# Altium integrated library Capacitor - Aluminium TH.IntLib: 4591 symbols (part 50 of 68)
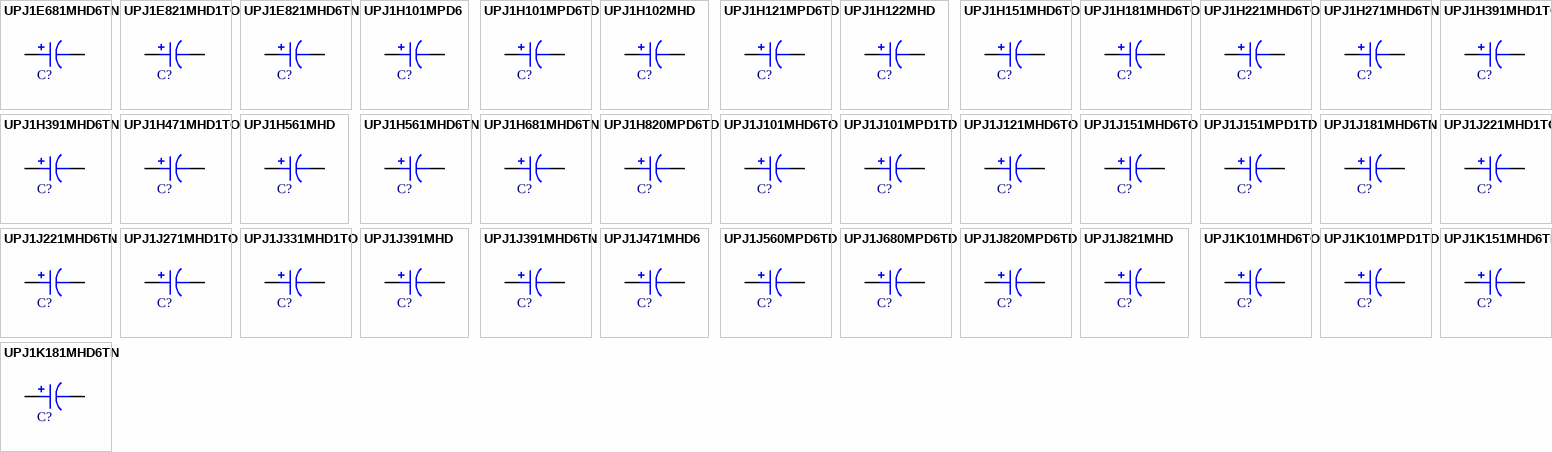
[diagram p163: symbols UPJ1E681MHD6TN to UPJ1K181MHD6TN]

## UPJ1H271MHD6TN
designator C?, comment 270uF  (value not drawn)
CAP ALUM 270UF 20% 50V RADIAL; Part Number: UPJ1H271MHD6TN; Manufacturer: Nichicon; TemperatureRange: -55C ~ 105C; Type: Polar; Ripple Current: 840mA @ 120Hz; Impedance: 91 mOhm; Value: 270uF; PartId: 26235; Supplier 1: Digi-Key; Supplier Part Number 1: 493-5051-3-ND; ComponentLink1Description: Datasheet; ComponentLink1URL: http://nichicon-us.com/english/products/pdfs/e-upj.pdf; ComponentLink2Description: Digi-Key Listing; ComponentLink2URL: https://www.digikey.com/product-detail/en/nichicon/UPJ1H271MHD6TN/493-5051-3-ND/3130056; Tolerance: 20%; Voltage: 50V; Price: 0.4242; Device Package: Radial, Can, 16mm
footprint CAP AL TH D16 L7.5 H16.5
pins: 1, 2

## UPJ1H391MHD1TO
designator C?, comment 390uF  (value not drawn)
CAP ALUM 390UF 20% 50V RADIAL; Part Number: UPJ1H391MHD1TO; Manufacturer: Nichicon; TemperatureRange: -55C ~ 105C; Type: Polar; Ripple Current: 1.12A @ 120Hz; Impedance: 53 mOhm; Value: 390uF; PartId: 23790; Supplier 1: Digi-Key; Supplier Part Number 1: 493-12052-3-ND; ComponentLink1Description: Datasheet; ComponentLink1URL: http://nichicon-us.com/english/products/pdfs/e-upj.pdf; ComponentLink2Description: Digi-Key Listing; ComponentLink2URL: https://www.digikey.com/product-detail/en/nichicon/UPJ1H391MHD1TO/493-12052-3-ND/4321195; Tolerance: 20%; Voltage: 50V; Price: 0.3173; Device Package: Radial, Can, 12.5mm
footprint CAP AL TH D12.5 L5 H27
pins: 1, 2

## UPJ1H391MHD6TN
designator C?, comment 390uF  (value not drawn)
CAP ALUM 390UF 20% 50V RADIAL; Part Number: UPJ1H391MHD6TN; Manufacturer: Nichicon; TemperatureRange: -55C ~ 105C; Type: Polar; Ripple Current: 990mA @ 120Hz; Impedance: 72 mOhm; Value: 390uF; PartId: 26252; Supplier 1: Digi-Key; Supplier Part Number 1: 493-5053-3-ND; ComponentLink1Description: Datasheet; ComponentLink1URL: http://nichicon-us.com/english/products/pdfs/e-upj.pdf; ComponentLink2Description: Digi-Key Listing; ComponentLink2URL: https://www.digikey.com/product-detail/en/nichicon/UPJ1H391MHD6TN/493-5053-3-ND/3130058; Tolerance: 20%; Voltage: 50V; Price: 0.5318; Device Package: Radial, Can, 16mm
footprint CAP AL TH D16 L7.5 H16.5
pins: 1, 2

## UPJ1H471MHD1TO
designator C?, comment 470uF  (value not drawn)
CAP ALUM 470UF 20% 50V RADIAL; Part Number: UPJ1H471MHD1TO; Manufacturer: Nichicon; TemperatureRange: -55C ~ 105C; Type: Polar; Ripple Current: 1.19A @ 120Hz; Impedance: 48 mOhm; Value: 470uF; PartId: 23947; Supplier 1: Digi-Key; Supplier Part Number 1: 493-12103-1-ND; ComponentLink1Description: Datasheet; ComponentLink1URL: http://nichicon-us.com/english/products/pdfs/e-upj.pdf; ComponentLink2Description: Digi-Key Listing; ComponentLink2URL: https://www.digikey.com/product-detail/en/nichicon/UPJ1H471MHD1TO/493-12103-1-ND/4319465; Tolerance: 20%; Voltage: 50V; Price: 0.97; Device Package: Radial, Can, 12.5mm
footprint CAP AL TH D12.5 L5 H27
pins: 1, 2

## UPJ1H561MHD
designator C?, comment 560uF  (value not drawn)
CAP ALUM 560UF 20% 50V RADIAL; Part Number: UPJ1H561MHD; Manufacturer: Nichicon; TemperatureRange: -55C ~ 105C; Type: Polar; Ripple Current: 1.36A @ 120Hz; Impedance: 40 mOhm; Value: 560uF; PartId: 24203; Supplier 1: Digi-Key; Supplier Part Number 1: 493-5544-ND; ComponentLink1Description: Datasheet; ComponentLink1URL: http://nichicon-us.com/english/products/pdfs/e-upj.pdf; ComponentLink2Description: Digi-Key Listing; ComponentLink2URL: https://www.digikey.com/product-detail/en/nichicon/UPJ1H561MHD/493-5544-ND/2599207; Tolerance: 20%; Voltage: 50V; Price: 0.9; Device Package: Radial, Can, 12.5mm
footprint CAP AL TH D12.5 L5 H35.5
pins: 1, 2

## UPJ1H561MHD6TN
designator C?, comment 560uF  (value not drawn)
CAP ALUM 560UF 20% 50V RADIAL; Part Number: UPJ1H561MHD6TN; Manufacturer: Nichicon; TemperatureRange: -55C ~ 105C; Type: Polar; Ripple Current: 1.26A @ 120Hz; Impedance: 53 mOhm; Value: 560uF; PartId: 26359; Supplier 1: Digi-Key; Supplier Part Number 1: 493-5056-3-ND; ComponentLink1Description: Datasheet; ComponentLink1URL: http://nichicon-us.com/english/products/pdfs/e-upj.pdf; ComponentLink2Description: Digi-Key Listing; ComponentLink2URL: https://www.digikey.com/product-detail/en/nichicon/UPJ1H561MHD6TN/493-5056-3-ND/3130061; Tolerance: 20%; Voltage: 50V; Price: 0.522; Device Package: Radial, Can, 16mm
footprint CAP AL TH D16 L7.5 H22
pins: 1, 2

## UPJ1H681MHD6TN
designator C?, comment 680uF  (value not drawn)
CAP ALUM 680UF 20% 50V RADIAL; Part Number: UPJ1H681MHD6TN; Manufacturer: Nichicon; TemperatureRange: -55C ~ 105C; Type: Polar; Ripple Current: 1.35A @ 120Hz; Impedance: 48 mOhm; Value: 680uF; PartId: 26351; Supplier 1: Digi-Key; Supplier Part Number 1: 493-5058-3-ND; ComponentLink1Description: Datasheet; ComponentLink1URL: http://nichicon-us.com/english/products/pdfs/e-upj.pdf; ComponentLink2Description: Digi-Key Listing; ComponentLink2URL: https://www.digikey.com/product-detail/en/nichicon/UPJ1H681MHD6TN/493-5058-3-ND/3130063; Tolerance: 20%; Voltage: 50V; Price: 0.5002; Device Package: Radial, Can, 16mm
footprint CAP AL TH D16 L7.5 H22
pins: 1, 2

## UPJ1H820MPD6TD
designator C?, comment 82uF  (value not drawn)
CAP ALUM 82UF 20% 50V RADIAL; Part Number: UPJ1H820MPD6TD; Manufacturer: Nichicon; TemperatureRange: -55C ~ 105C; Type: Polar; Ripple Current: 330mA @ 120Hz; Impedance: 230 mOhm; Value: 82uF; PartId: 24898; Supplier 1: Digi-Key; Supplier Part Number 1: 493-11695-1-ND; ComponentLink1Description: Datasheet; ComponentLink1URL: http://nichicon-us.com/english/products/pdfs/e-upj.pdf; ComponentLink2Description: Digi-Key Listing; ComponentLink2URL: https://www.digikey.com/product-detail/en/nichicon/UPJ1H820MPD6TD/493-11695-1-ND/4319469; Tolerance: 20%; Voltage: 50V; Price: 0.48; Device Package: Radial, Can, 10mm
footprint CAP AL TH D10 L5 H14.5
pins: 1, 2

## UPJ1J101MHD6TO
designator C?, comment 100uF  (value not drawn)
CAP ALUM 100UF 20% 63V RADIAL; Part Number: UPJ1J101MHD6TO; Manufacturer: Nichicon; TemperatureRange: -55C ~ 105C; Type: Polar; Ripple Current: 460mA @ 120Hz; Impedance: 200 mOhm; Value: 100uF; PartId: 22726; Supplier 1: Digi-Key; Supplier Part Number 1: 493-11932-1-ND; ComponentLink1Description: Datasheet; ComponentLink1URL: http://nichicon-us.com/english/products/pdfs/e-upj.pdf; ComponentLink2Description: Digi-Key Listing; ComponentLink2URL: https://www.digikey.com/product-detail/en/nichicon/UPJ1J101MHD6TO/493-11932-1-ND/4319471; Tolerance: 20%; Voltage: 63V; Price: 0; Device Package: Radial, Can, 12.5mm
footprint CAP AL TH D12.5 L5 H16.5
pins: 1, 2

## UPJ1J101MPD1TD
designator C?, comment 100uF  (value not drawn)
CAP ALUM 100UF 20% 63V RADIAL; Part Number: UPJ1J101MPD1TD; Manufacturer: Nichicon; TemperatureRange: -55C ~ 105C; Type: Polar; Ripple Current: 495mA @ 120Hz; Impedance: 180 mOhm; Value: 100uF; PartId: 25736; Supplier 1: Digi-Key; Supplier Part Number 1: 493-11876-3-ND; ComponentLink1Description: Datasheet; ComponentLink1URL: http://nichicon-us.com/english/products/pdfs/e-upj.pdf; ComponentLink2Description: Digi-Key Listing; ComponentLink2URL: https://www.digikey.com/product-detail/en/nichicon/UPJ1J101MPD1TD/493-11876-3-ND/4321019; Tolerance: 20%; Voltage: 63V; Price: 0.1808; Device Package: Radial, Can, 10mm
footprint CAP AL TH D10 L5 H22
pins: 1, 2

## UPJ1J121MHD6TO
designator C?, comment 120uF  (value not drawn)
CAP ALUM 120UF 20% 63V RADIAL; Part Number: UPJ1J121MHD6TO; Manufacturer: Nichicon; TemperatureRange: -55C ~ 105C; Type: Polar; Ripple Current: 510mA @ 120Hz; Impedance: 180 mOhm; Value: 120uF; PartId: 22735; Supplier 1: Digi-Key; Supplier Part Number 1: 493-5063-1-ND; ComponentLink1Description: Datasheet; ComponentLink1URL: http://nichicon-us.com/english/products/pdfs/e-upj.pdf; ComponentLink2Description: Digi-Key Listing; ComponentLink2URL: https://www.digikey.com/product-detail/en/nichicon/UPJ1J121MHD6TO/493-5063-1-ND/3129400; Tolerance: 20%; Voltage: 63V; Price: 0; Device Package: Radial, Can, 12.5mm
footprint CAP AL TH D12.5 L5 H16.5
pins: 1, 2

## UPJ1J151MHD6TO
designator C?, comment 150uF  (value not drawn)
CAP ALUM 150UF 20% 63V RADIAL; Part Number: UPJ1J151MHD6TO; Manufacturer: Nichicon; TemperatureRange: -55C ~ 105C; Type: Polar; Ripple Current: 590mA @ 120Hz; Impedance: 140 mOhm; Value: 150uF; PartId: 22756; Supplier 1: Digi-Key; Supplier Part Number 1: 493-5065-1-ND; ComponentLink1Description: Datasheet; ComponentLink1URL: http://nichicon-us.com/english/products/pdfs/e-upj.pdf; ComponentLink2Description: Digi-Key Listing; ComponentLink2URL: https://www.digikey.com/product-detail/en/nichicon/UPJ1J151MHD6TO/493-5065-1-ND/3129402; Tolerance: 20%; Voltage: 63V; Price: 0; Device Package: Radial, Can, 12.5mm
footprint CAP AL TH D12.5 L5 H16.5
pins: 1, 2

## UPJ1J151MPD1TD
designator C?, comment 150uF  (value not drawn)
CAP ALUM 150UF 20% 63V RADIAL; Part Number: UPJ1J151MPD1TD; Manufacturer: Nichicon; TemperatureRange: -55C ~ 105C; Type: Polar; Ripple Current: 665mA @ 120Hz; Impedance: 130 mOhm; Value: 150uF; PartId: 26001; Supplier 1: Digi-Key; Supplier Part Number 1: 493-5066-3-ND; ComponentLink1Description: Datasheet; ComponentLink1URL: http://nichicon-us.com/english/products/pdfs/e-upj.pdf; ComponentLink2Description: Digi-Key Listing; ComponentLink2URL: https://www.digikey.com/product-detail/en/nichicon/UPJ1J151MPD1TD/493-5066-3-ND/3130071; Tolerance: 20%; Voltage: 63V; Price: 0.215; Device Package: Radial, Can, 10mm
footprint CAP AL TH D10 L5 H30
pins: 1, 2

## UPJ1J181MHD6TN
designator C?, comment 180uF  (value not drawn)
CAP ALUM 180UF 20% 63V RADIAL; Part Number: UPJ1J181MHD6TN; Manufacturer: Nichicon; TemperatureRange: -55C ~ 105C; Type: Polar; Ripple Current: 750mA @ 120Hz; Impedance: 120 mOhm; Value: 180uF; PartId: 26233; Supplier 1: Digi-Key; Supplier Part Number 1: 493-5068-3-ND; ComponentLink1Description: Datasheet; ComponentLink1URL: http://nichicon-us.com/english/products/pdfs/e-upj.pdf; ComponentLink2Description: Digi-Key Listing; ComponentLink2URL: https://www.digikey.com/product-detail/en/nichicon/UPJ1J181MHD6TN/493-5068-3-ND/3130073; Tolerance: 20%; Voltage: 63V; Price: 0.403; Device Package: Radial, Can, 16mm
footprint CAP AL TH D16 L7.5 H16.5
pins: 1, 2

## UPJ1J221MHD1TO
designator C?, comment 220uF  (value not drawn)
CAP ALUM 220UF 20% 63V RADIAL; Part Number: UPJ1J221MHD1TO; Manufacturer: Nichicon; TemperatureRange: -55C ~ 105C; Type: Polar; Ripple Current: 835mA @ 120Hz; Impedance: 94 mOhm; Value: 220uF; PartId: 23238; Supplier 1: Digi-Key; Supplier Part Number 1: 493-11976-1-ND; ComponentLink1Description: Datasheet; ComponentLink1URL: http://nichicon-us.com/english/products/pdfs/e-upj.pdf; ComponentLink2Description: Digi-Key Listing; ComponentLink2URL: https://www.digikey.com/product-detail/en/nichicon/UPJ1J221MHD1TO/493-11976-1-ND/4319475; Tolerance: 20%; Voltage: 63V; Price: 0.68; Device Package: Radial, Can, 12.5mm
footprint CAP AL TH D12.5 L5 H22
pins: 1, 2

## UPJ1J221MHD6TN
designator C?, comment 220uF  (value not drawn)
CAP ALUM 220UF 20% 63V RADIAL; Part Number: UPJ1J221MHD6TN; Manufacturer: Nichicon; TemperatureRange: -55C ~ 105C; Type: Polar; Ripple Current: 820mA @ 120Hz; Impedance: 100 mOhm; Value: 220uF; PartId: 26242; Supplier 1: Digi-Key; Supplier Part Number 1: 493-5070-3-ND; ComponentLink1Description: Datasheet; ComponentLink1URL: http://nichicon-us.com/english/products/pdfs/e-upj.pdf; ComponentLink2Description: Digi-Key Listing; ComponentLink2URL: https://www.digikey.com/product-detail/en/nichicon/UPJ1J221MHD6TN/493-5070-3-ND/3130075; Tolerance: 20%; Voltage: 63V; Price: 0.4905; Device Package: Radial, Can, 16mm
footprint CAP AL TH D16 L7.5 H16.5
pins: 1, 2

## UPJ1J271MHD1TO
designator C?, comment 270uF  (value not drawn)
CAP ALUM 270UF 20% 63V RADIAL; Part Number: UPJ1J271MHD1TO; Manufacturer: Nichicon; TemperatureRange: -55C ~ 105C; Type: Polar; Ripple Current: 1A @ 120Hz; Impedance: 81 mOhm; Value: 270uF; PartId: 23651; Supplier 1: Digi-Key; Supplier Part Number 1: 493-5071-1-ND; ComponentLink1Description: Datasheet; ComponentLink1URL: http://nichicon-us.com/english/products/pdfs/e-upj.pdf; ComponentLink2Description: Digi-Key Listing; ComponentLink2URL: https://www.digikey.com/product-detail/en/nichicon/UPJ1J271MHD1TO/493-5071-1-ND/3129408; Tolerance: 20%; Voltage: 63V; Price: 0.81; Device Package: Radial, Can, 12.5mm
footprint CAP AL TH D12.5 L5 H26.5
pins: 1, 2

## UPJ1J331MHD1TO
designator C?, comment 330uF  (value not drawn)
CAP ALUM 330UF 20% 63V RADIAL; Part Number: UPJ1J331MHD1TO; Manufacturer: Nichicon; TemperatureRange: -55C ~ 105C; Type: Polar; Ripple Current: 1.09A @ 120Hz; Impedance: 72 mOhm; Value: 330uF; PartId: 23625; Supplier 1: Digi-Key; Supplier Part Number 1: 493-5074-3-ND; ComponentLink1Description: Datasheet; ComponentLink1URL: http://nichicon-us.com/english/products/pdfs/e-upj.pdf; ComponentLink2Description: Digi-Key Listing; ComponentLink2URL: https://www.digikey.com/product-detail/en/nichicon/UPJ1J331MHD1TO/493-5074-3-ND/3130079; Tolerance: 20%; Voltage: 63V; Price: 0.3441; Device Package: Radial, Can, 12.5mm
footprint CAP AL TH D12.5 L5 H26.5
pins: 1, 2

## UPJ1J391MHD
designator C?, comment 390uF  (value not drawn)
CAP ALUM 390UF 20% 63V RADIAL; Part Number: UPJ1J391MHD; Manufacturer: Nichicon; TemperatureRange: -55C ~ 105C; Type: Polar; Ripple Current: 1.26A @ 120Hz; Impedance: 59 mOhm; Value: 390uF; PartId: 24204; Supplier 1: Digi-Key; Supplier Part Number 1: 493-5548-ND; ComponentLink1Description: Datasheet; ComponentLink1URL: http://nichicon-us.com/english/products/pdfs/e-upj.pdf; ComponentLink2Description: Digi-Key Listing; ComponentLink2URL: https://www.digikey.com/product-detail/en/nichicon/UPJ1J391MHD/493-5548-ND/2599244; Tolerance: 20%; Voltage: 63V; Price: 0.9; Device Package: Radial, Can, 12.5mm
footprint CAP AL TH D12.5 L5 H35.5
pins: 1, 2

## UPJ1J391MHD6TN
designator C?, comment 390uF  (value not drawn)
CAP ALUM 390UF 20% 63V RADIAL; Part Number: UPJ1J391MHD6TN; Manufacturer: Nichicon; TemperatureRange: -55C ~ 105C; Type: Polar; Ripple Current: 1.17A @ 120Hz; Impedance: 70 mOhm; Value: 390uF; PartId: 26355; Supplier 1: Digi-Key; Supplier Part Number 1: 493-5077-3-ND; ComponentLink1Description: Datasheet; ComponentLink1URL: http://nichicon-us.com/english/products/pdfs/e-upj.pdf; ComponentLink2Description: Digi-Key Listing; ComponentLink2URL: https://www.digikey.com/product-detail/en/nichicon/UPJ1J391MHD6TN/493-5077-3-ND/3130082; Tolerance: 20%; Voltage: 63V; Price: 0.5092; Device Package: Radial, Can, 16mm
footprint CAP AL TH D16 L7.5 H22
pins: 1, 2

## UPJ1J471MHD6
designator C?, comment 470uF  (value not drawn)
CAP ALUM 470UF 20% 63V RADIAL; Part Number: UPJ1J471MHD6; Manufacturer: Nichicon; TemperatureRange: -55C ~ 105C; Type: Polar; Ripple Current: 1.35A @ 120Hz; Impedance: 63 mOhm; Value: 470uF; PartId: 26616; Supplier 1: Digi-Key; Supplier Part Number 1: UPJ1J471MHD6-ND; ComponentLink1Description: Datasheet; ComponentLink1URL: http://nichicon-us.com/english/products/pdfs/e-upj.pdf; ComponentLink2Description: Digi-Key Listing; ComponentLink2URL: https://www.digikey.com/product-detail/en/nichicon/UPJ1J471MHD6/UPJ1J471MHD6-ND/2599248; Tolerance: 20%; Voltage: 63V; Price: 1.4; Device Package: Radial, Can, 16mm
footprint CAP AL TH D16 L7.5 H26.5
pins: 1, 2

## UPJ1J560MPD6TD
designator C?, comment 56uF  (value not drawn)
CAP ALUM 56UF 20% 63V RADIAL; Part Number: UPJ1J560MPD6TD; Manufacturer: Nichicon; TemperatureRange: -55C ~ 105C; Type: Polar; Ripple Current: 275mA @ 120Hz; Impedance: 340 mOhm; Value: 56uF; PartId: 24554; Supplier 1: Digi-Key; Supplier Part Number 1: 493-5079-3-ND; ComponentLink1Description: Datasheet; ComponentLink1URL: http://nichicon-us.com/english/products/pdfs/e-upj.pdf; ComponentLink2Description: Digi-Key Listing; ComponentLink2URL: https://www.digikey.com/product-detail/en/nichicon/UPJ1J560MPD6TD/493-5079-3-ND/3130084; Tolerance: 20%; Voltage: 63V; Price: 0.1507; Device Package: Radial, Can, 10mm
footprint CAP AL TH D10 L5 H14.5
pins: 1, 2

## UPJ1J680MPD6TD
designator C?, comment 68uF  (value not drawn)
CAP ALUM 68UF 20% 63V RADIAL; Part Number: UPJ1J680MPD6TD; Manufacturer: Nichicon; TemperatureRange: -55C ~ 105C; Type: Polar; Ripple Current: 310mA @ 120Hz; Impedance: 280 mOhm; Value: 68uF; PartId: 24573; Supplier 1: Digi-Key; Supplier Part Number 1: 493-5082-3-ND; ComponentLink1Description: Datasheet; ComponentLink1URL: http://nichicon-us.com/english/products/pdfs/e-upj.pdf; ComponentLink2Description: Digi-Key Listing; ComponentLink2URL: https://www.digikey.com/product-detail/en/nichicon/UPJ1J680MPD6TD/493-5082-3-ND/3130087; Tolerance: 20%; Voltage: 63V; Price: 0.157; Device Package: Radial, Can, 10mm
footprint CAP AL TH D10 L5 H14.5
pins: 1, 2

## UPJ1J820MPD6TD
designator C?, comment 82uF  (value not drawn)
CAP ALUM 82UF 20% 63V RADIAL; Part Number: UPJ1J820MPD6TD; Manufacturer: Nichicon; TemperatureRange: -55C ~ 105C; Type: Polar; Ripple Current: 375mA @ 120Hz; Impedance: 240 mOhm; Value: 82uF; PartId: 25016; Supplier 1: Digi-Key; Supplier Part Number 1: 493-5083-3-ND; ComponentLink1Description: Datasheet; ComponentLink1URL: http://nichicon-us.com/english/products/pdfs/e-upj.pdf; ComponentLink2Description: Digi-Key Listing; ComponentLink2URL: https://www.digikey.com/product-detail/en/nichicon/UPJ1J820MPD6TD/493-5083-3-ND/3130088; Tolerance: 20%; Voltage: 63V; Price: 0.159; Device Package: Radial, Can, 10mm
footprint CAP AL TH D10 L5 H17.5
pins: 1, 2

## UPJ1J821MHD
designator C?, comment 820uF  (value not drawn)
CAP ALUM 820UF 20% 63V RADIAL; Part Number: UPJ1J821MHD; Manufacturer: Nichicon; TemperatureRange: -55C ~ 105C; Type: Polar; Ripple Current: 1.88A @ 120Hz; Impedance: 40 mOhm; Value: 820uF; PartId: 27320; Supplier 1: Digi-Key; Supplier Part Number 1: 493-5551-ND; ComponentLink1Description: Datasheet; ComponentLink1URL: http://nichicon-us.com/english/products/pdfs/e-upj.pdf; ComponentLink2Description: Digi-Key Listing; ComponentLink2URL: https://www.digikey.com/product-detail/en/nichicon/UPJ1J821MHD/493-5551-ND/2599258; Tolerance: 20%; Voltage: 63V; Price: 1.48; Device Package: Radial, Can, 16mm
footprint CAP AL TH D16 L7.5 H37
pins: 1, 2

## UPJ1K101MHD6TO
designator C?, comment 100uF  (value not drawn)
CAP ALUM 100UF 20% 80V RADIAL; Part Number: UPJ1K101MHD6TO; Manufacturer: Nichicon; TemperatureRange: -55C ~ 105C; Type: Polar; Ripple Current: 308mA @ 120Hz; Impedance: 230 mOhm; Value: 100uF; PartId: 22753; Supplier 1: Digi-Key; Supplier Part Number 1: 493-5084-1-ND; ComponentLink1Description: Datasheet; ComponentLink1URL: http://nichicon-us.com/english/products/pdfs/e-upj.pdf; ComponentLink2Description: Digi-Key Listing; ComponentLink2URL: https://www.digikey.com/product-detail/en/nichicon/UPJ1K101MHD6TO/493-5084-1-ND/3129421; Tolerance: 20%; Voltage: 80V; Price: 0; Device Package: Radial, Can, 12.5mm
footprint CAP AL TH D12.5 L5 H16.5
pins: 1, 2

## UPJ1K101MPD1TD
designator C?, comment 100uF  (value not drawn)
CAP ALUM 100UF 20% 80V RADIAL; Part Number: UPJ1K101MPD1TD; Manufacturer: Nichicon; TemperatureRange: -55C ~ 105C; Type: Polar; Ripple Current: 347mA @ 120Hz; Impedance: 210 mOhm; Value: 100uF; PartId: 26009; Supplier 1: Digi-Key; Supplier Part Number 1: 493-5085-3-ND; ComponentLink1Description: Datasheet; ComponentLink1URL: http://nichicon-us.com/english/products/pdfs/e-upj.pdf; ComponentLink2Description: Digi-Key Listing; ComponentLink2URL: https://www.digikey.com/product-detail/en/nichicon/UPJ1K101MPD1TD/493-5085-3-ND/3130090; Tolerance: 20%; Voltage: 80V; Price: 0.2825; Device Package: Radial, Can, 10mm
footprint CAP AL TH D10 L5 H30
pins: 1, 2

## UPJ1K151MHD6TN
designator C?, comment 150uF  (value not drawn)
CAP ALUM 150UF 20% 80V RADIAL; Part Number: UPJ1K151MHD6TN; Manufacturer: Nichicon; TemperatureRange: -55C ~ 105C; Type: Polar; Ripple Current: 484mA @ 120Hz; Impedance: 180 mOhm; Value: 150uF; PartId: 26241; Supplier 1: Digi-Key; Supplier Part Number 1: 493-5089-3-ND; ComponentLink1Description: Datasheet; ComponentLink1URL: http://nichicon-us.com/english/products/pdfs/e-upj.pdf; ComponentLink2Description: Digi-Key Listing; ComponentLink2URL: https://www.digikey.com/product-detail/en/nichicon/UPJ1K151MHD6TN/493-5089-3-ND/3130094; Tolerance: 20%; Voltage: 80V; Price: 0.4811; Device Package: Radial, Can, 16mm
footprint CAP AL TH D16 L7.5 H16.5
pins: 1, 2

## UPJ1K181MHD6TN
designator C?, comment 180uF  (value not drawn)
CAP ALUM 180UF 20% 80V RADIAL; Part Number: UPJ1K181MHD6TN; Manufacturer: Nichicon; TemperatureRange: -55C ~ 105C; Type: Polar; Ripple Current: 543mA @ 120Hz; Impedance: 150 mOhm; Value: 180uF; PartId: 26243; Supplier 1: Digi-Key; Supplier Part Number 1: 493-5092-3-ND; ComponentLink1Description: Datasheet; ComponentLink1URL: http://nichicon-us.com/english/products/pdfs/e-upj.pdf; ComponentLink2Description: Digi-Key Listing; ComponentLink2URL: https://www.digikey.com/product-detail/en/nichicon/UPJ1K181MHD6TN/493-5092-3-ND/3130097; Tolerance: 20%; Voltage: 80V; Price: 0.4905; Device Package: Radial, Can, 16mm
footprint CAP AL TH D16 L7.5 H16.5
pins: 1, 2

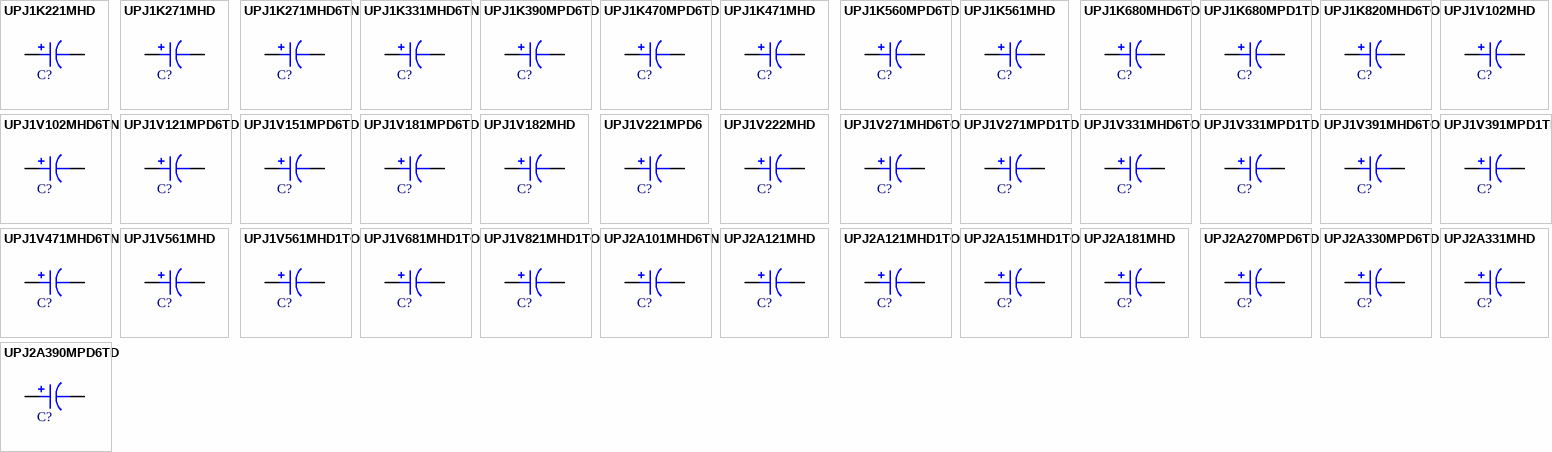
[diagram p83: symbols UPJ1K221MHD to UPJ2A390MPD6TD]

## UPJ1K221MHD
designator C?, comment 220uF  (value not drawn)
CAP ALUM 220UF 20% 80V RADIAL; Part Number: UPJ1K221MHD; Manufacturer: Nichicon; TemperatureRange: -55C ~ 105C; Type: Polar; Ripple Current: 595mA @ 120Hz; Impedance: 120 mOhm; Value: 220uF; PartId: 24232; Supplier 1: Digi-Key; Supplier Part Number 1: 493-5553-ND; ComponentLink1Description: Datasheet; ComponentLink1URL: http://nichicon-us.com/english/products/pdfs/e-upj.pdf; ComponentLink2Description: Digi-Key Listing; ComponentLink2URL: https://www.digikey.com/product-detail/en/nichicon/UPJ1K221MHD/493-5553-ND/2599274; Tolerance: 20%; Voltage: 80V; Price: 0.98; Device Package: Radial, Can, 12.5mm
footprint CAP AL TH D12.5 L5 H35.5
pins: 1, 2

## UPJ1K271MHD
designator C?, comment 270uF  (value not drawn)
CAP ALUM 270UF 20% 80V RADIAL; Part Number: UPJ1K271MHD; Manufacturer: Nichicon; TemperatureRange: -55C ~ 105C; Type: Polar; Ripple Current: 667mA @ 120Hz; Impedance: 100 mOhm; Value: 270uF; PartId: 24250; Supplier 1: Digi-Key; Supplier Part Number 1: 493-5554-ND; ComponentLink1Description: Datasheet; ComponentLink1URL: http://nichicon-us.com/english/products/pdfs/e-upj.pdf; ComponentLink2Description: Digi-Key Listing; ComponentLink2URL: https://www.digikey.com/product-detail/en/nichicon/UPJ1K271MHD/493-5554-ND/2599277; Tolerance: 20%; Voltage: 80V; Price: 1.02; Device Package: Radial, Can, 12.5mm
footprint CAP AL TH D12.5 L5 H35.5
pins: 1, 2

## UPJ1K271MHD6TN
designator C?, comment 270uF  (value not drawn)
CAP ALUM 270UF 20% 80V RADIAL; Part Number: UPJ1K271MHD6TN; Manufacturer: Nichicon; TemperatureRange: -55C ~ 105C; Type: Polar; Ripple Current: 742mA @ 120Hz; Impedance: 110 mOhm; Value: 270uF; PartId: 26361; Supplier 1: Digi-Key; Supplier Part Number 1: 493-5095-3-ND; ComponentLink1Description: Datasheet; ComponentLink1URL: http://nichicon-us.com/english/products/pdfs/e-upj.pdf; ComponentLink2Description: Digi-Key Listing; ComponentLink2URL: https://www.digikey.com/product-detail/en/nichicon/UPJ1K271MHD6TN/493-5095-3-ND/3130100; Tolerance: 20%; Voltage: 80V; Price: 0.5368; Device Package: Radial, Can, 16mm
footprint CAP AL TH D16 L7.5 H22
pins: 1, 2

## UPJ1K331MHD6TN
designator C?, comment 330uF  (value not drawn)
CAP ALUM 330UF 20% 80V RADIAL; Part Number: UPJ1K331MHD6TN; Manufacturer: Nichicon; TemperatureRange: -55C ~ 105C; Type: Polar; Ripple Current: 874mA @ 120Hz; Impedance: 99 mOhm; Value: 330uF; PartId: 26517; Supplier 1: Digi-Key; Supplier Part Number 1: 493-5096-3-ND; ComponentLink1Description: Datasheet; ComponentLink1URL: http://nichicon-us.com/english/products/pdfs/e-upj.pdf; ComponentLink2Description: Digi-Key Listing; ComponentLink2URL: https://www.digikey.com/product-detail/en/nichicon/UPJ1K331MHD6TN/493-5096-3-ND/3130101; Tolerance: 20%; Voltage: 80V; Price: 0.613; Device Package: Radial, Can, 16mm
footprint CAP AL TH D16 L7.5 H26.5
pins: 1, 2

## UPJ1K390MPD6TD
designator C?, comment 39uF  (value not drawn)
CAP ALUM 39UF 20% 80V RADIAL; Part Number: UPJ1K390MPD6TD; Manufacturer: Nichicon; TemperatureRange: -55C ~ 105C; Type: Polar; Ripple Current: 155mA @ 120Hz; Impedance: 490 mOhm; Value: 39uF; PartId: 24517; Supplier 1: Digi-Key; Supplier Part Number 1: 493-5098-3-ND; ComponentLink1Description: Datasheet; ComponentLink1URL: http://nichicon-us.com/english/products/pdfs/e-upj.pdf; ComponentLink2Description: Digi-Key Listing; ComponentLink2URL: https://www.digikey.com/product-detail/en/nichicon/UPJ1K390MPD6TD/493-5098-3-ND/3130103; Tolerance: 20%; Voltage: 80V; Price: 0.1329; Device Package: Radial, Can, 10mm
footprint CAP AL TH D10 L5 H14.5
pins: 1, 2

## UPJ1K470MPD6TD
designator C?, comment 47uF  (value not drawn)
CAP ALUM 47UF 20% 80V RADIAL; Part Number: UPJ1K470MPD6TD; Manufacturer: Nichicon; TemperatureRange: -55C ~ 105C; Type: Polar; Ripple Current: 174mA @ 120Hz; Impedance: 420 mOhm; Value: 47uF; PartId: 24588; Supplier 1: Digi-Key; Supplier Part Number 1: 493-5099-3-ND; ComponentLink1Description: Datasheet; ComponentLink1URL: http://nichicon-us.com/english/products/pdfs/e-upj.pdf; ComponentLink2Description: Digi-Key Listing; ComponentLink2URL: https://www.digikey.com/product-detail/en/nichicon/UPJ1K470MPD6TD/493-5099-3-ND/3130104; Tolerance: 20%; Voltage: 80V; Price: 0.1708; Device Package: Radial, Can, 10mm
footprint CAP AL TH D10 L5 H14.5
pins: 1, 2

## UPJ1K471MHD
designator C?, comment 470uF  (value not drawn)
CAP ALUM 470UF 20% 80V RADIAL; Part Number: UPJ1K471MHD; Manufacturer: Nichicon; TemperatureRange: -55C ~ 105C; Type: Polar; Ripple Current: 1.15A @ 120Hz; Impedance: 69 mOhm; Value: 470uF; PartId: 27036; Supplier 1: Digi-Key; Supplier Part Number 1: 493-5555-ND; ComponentLink1Description: Datasheet; ComponentLink1URL: http://nichicon-us.com/english/products/pdfs/e-upj.pdf; ComponentLink2Description: Digi-Key Listing; ComponentLink2URL: https://www.digikey.com/product-detail/en/nichicon/UPJ1K471MHD/493-5555-ND/2599288; Tolerance: 20%; Voltage: 80V; Price: 1.52; Device Package: Radial, Can, 16mm
footprint CAP AL TH D16 L7.5 H33.5
pins: 1, 2

## UPJ1K560MPD6TD
designator C?, comment 56uF  (value not drawn)
CAP ALUM 56UF 20% 80V RADIAL; Part Number: UPJ1K560MPD6TD; Manufacturer: Nichicon; TemperatureRange: -55C ~ 105C; Type: Polar; Ripple Current: 202mA @ 120Hz; Impedance: 360 mOhm; Value: 56uF; PartId: 25028; Supplier 1: Digi-Key; Supplier Part Number 1: 493-5103-3-ND; ComponentLink1Description: Datasheet; ComponentLink1URL: http://nichicon-us.com/english/products/pdfs/e-upj.pdf; ComponentLink2Description: Digi-Key Listing; ComponentLink2URL: https://www.digikey.com/product-detail/en/nichicon/UPJ1K560MPD6TD/493-5103-3-ND/3130108; Tolerance: 20%; Voltage: 80V; Price: 0.1736; Device Package: Radial, Can, 10mm
footprint CAP AL TH D10 L5 H17.5
pins: 1, 2

## UPJ1K561MHD
designator C?, comment 560uF  (value not drawn)
CAP ALUM 560UF 20% 80V RADIAL; Part Number: UPJ1K561MHD; Manufacturer: Nichicon; TemperatureRange: -55C ~ 105C; Type: Polar; Ripple Current: 1.3A @ 120Hz; Impedance: 62 mOhm; Value: 560uF; PartId: 27348; Supplier 1: Digi-Key; Supplier Part Number 1: 493-5556-ND; ComponentLink1Description: Datasheet; ComponentLink1URL: http://nichicon-us.com/english/products/pdfs/e-upj.pdf; ComponentLink2Description: Digi-Key Listing; ComponentLink2URL: https://www.digikey.com/product-detail/en/nichicon/UPJ1K561MHD/493-5556-ND/2599293; Tolerance: 20%; Voltage: 80V; Price: 1.71; Device Package: Radial, Can, 16mm
footprint CAP AL TH D16 L7.5 H37
pins: 1, 2

## UPJ1K680MHD6TO
designator C?, comment 68uF  (value not drawn)
CAP ALUM 68UF 20% 80V RADIAL; Part Number: UPJ1K680MHD6TO; Manufacturer: Nichicon; TemperatureRange: -55C ~ 105C; Type: Polar; Ripple Current: 249mA @ 120Hz; Impedance: 310 mOhm; Value: 68uF; PartId: 22740; Supplier 1: Digi-Key; Supplier Part Number 1: 493-5104-1-ND; ComponentLink1Description: Datasheet; ComponentLink1URL: http://nichicon-us.com/english/products/pdfs/e-upj.pdf; ComponentLink2Description: Digi-Key Listing; ComponentLink2URL: https://www.digikey.com/product-detail/en/nichicon/UPJ1K680MHD6TO/493-5104-1-ND/3129441; Tolerance: 20%; Voltage: 80V; Price: 0; Device Package: Radial, Can, 12.5mm
footprint CAP AL TH D12.5 L5 H16.5
pins: 1, 2

## UPJ1K680MPD1TD
designator C?, comment 68uF  (value not drawn)
CAP ALUM 68UF 20% 80V RADIAL; Part Number: UPJ1K680MPD1TD; Manufacturer: Nichicon; TemperatureRange: -55C ~ 105C; Type: Polar; Ripple Current: 264mA @ 120Hz; Impedance: 280 mOhm; Value: 68uF; PartId: 25452; Supplier 1: Digi-Key; Supplier Part Number 1: 493-5105-3-ND; ComponentLink1Description: Datasheet; ComponentLink1URL: http://nichicon-us.com/english/products/pdfs/e-upj.pdf; ComponentLink2Description: Digi-Key Listing; ComponentLink2URL: https://www.digikey.com/product-detail/en/nichicon/UPJ1K680MPD1TD/493-5105-3-ND/3130110; Tolerance: 20%; Voltage: 80V; Price: 0.1708; Device Package: Radial, Can, 10mm
footprint CAP AL TH D10 L5 H22
pins: 1, 2

## UPJ1K820MHD6TO
designator C?, comment 82uF  (value not drawn)
CAP ALUM 82UF 20% 80V RADIAL; Part Number: UPJ1K820MHD6TO; Manufacturer: Nichicon; TemperatureRange: -55C ~ 105C; Type: Polar; Ripple Current: 273mA @ 120Hz; Impedance: 270 mOhm; Value: 82uF; PartId: 22741; Supplier 1: Digi-Key; Supplier Part Number 1: 493-5107-1-ND; ComponentLink1Description: Datasheet; ComponentLink1URL: http://nichicon-us.com/english/products/pdfs/e-upj.pdf; ComponentLink2Description: Digi-Key Listing; ComponentLink2URL: https://www.digikey.com/product-detail/en/nichicon/UPJ1K820MHD6TO/493-5107-1-ND/3129444; Tolerance: 20%; Voltage: 80V; Price: 0; Device Package: Radial, Can, 12.5mm
footprint CAP AL TH D12.5 L5 H16.5
pins: 1, 2

## UPJ1V102MHD
designator C?, comment 1000uF  (value not drawn)
CAP ALUM 1000UF 20% 35V RADIAL; Part Number: UPJ1V102MHD; Manufacturer: Nichicon; TemperatureRange: -55C ~ 105C; Type: Polar; Ripple Current: 1.71A; Impedance: 35 mOhm; Value: 1000uF; PartId: 24222; Supplier 1: Digi-Key; Supplier Part Number 1: 493-11098-ND; ComponentLink1Description: Datasheet; ComponentLink1URL: http://nichicon-us.com/english/products/pdfs/e-upj.pdf; ComponentLink2Description: Digi-Key Listing; ComponentLink2URL: https://www.digikey.com/product-detail/en/nichicon/UPJ1V102MHD/493-11098-ND/2599303; Tolerance: 20%; Voltage: 35V; Price: 0.96; Device Package: Radial, Can, 12.5mm
footprint CAP AL TH D12.5 L5 H35.5
pins: 1, 2

## UPJ1V102MHD6TN
designator C?, comment 1000uF  (value not drawn)
CAP ALUM 1000UF 20% 35V RADIAL; Part Number: UPJ1V102MHD6TN; Manufacturer: Nichicon; TemperatureRange: -55C ~ 105C; Type: Polar; Ripple Current: 1.53A @ 120Hz; Impedance: 50 mOhm; Value: 1000uF; PartId: 26368; Supplier 1: Digi-Key; Supplier Part Number 1: 493-12242-3-ND; ComponentLink1Description: Datasheet; ComponentLink1URL: http://nichicon-us.com/english/products/pdfs/e-upj.pdf; ComponentLink2Description: Digi-Key Listing; ComponentLink2URL: https://www.digikey.com/product-detail/en/nichicon/UPJ1V102MHD6TN/493-12242-3-ND/4321385; Tolerance: 20%; Voltage: 35V; Price: 0.5706; Device Package: Radial, Can, 16mm
footprint CAP AL TH D16 L7.5 H22
pins: 1, 2

## UPJ1V121MPD6TD
designator C?, comment 120uF  (value not drawn)
CAP ALUM 120UF 20% 35V RADIAL; Part Number: UPJ1V121MPD6TD; Manufacturer: Nichicon; TemperatureRange: -55C ~ 105C; Type: Polar; Ripple Current: 375mA @ 120Hz; Impedance: 240 mOhm; Value: 120uF; PartId: 24773; Supplier 1: Digi-Key; Supplier Part Number 1: 493-11651-1-ND; ComponentLink1Description: Datasheet; ComponentLink1URL: http://nichicon-us.com/english/products/pdfs/e-upj.pdf; ComponentLink2Description: Digi-Key Listing; ComponentLink2URL: https://www.digikey.com/product-detail/en/nichicon/UPJ1V121MPD6TD/493-11651-1-ND/4319488; Tolerance: 20%; Voltage: 35V; Price: 0.43; Device Package: Radial, Can, 10mm
footprint CAP AL TH D10 L5 H14.5
pins: 1, 2

## UPJ1V151MPD6TD
designator C?, comment 150uF  (value not drawn)
CAP ALUM 150UF 20% 35V RADIAL; Part Number: UPJ1V151MPD6TD; Manufacturer: Nichicon; TemperatureRange: -55C ~ 105C; Type: Polar; Ripple Current: 435mA @ 120Hz; Impedance: 200 mOhm; Value: 150uF; PartId: 24868; Supplier 1: Digi-Key; Supplier Part Number 1: 493-11683-1-ND; ComponentLink1Description: Datasheet; ComponentLink1URL: http://nichicon-us.com/english/products/pdfs/e-upj.pdf; ComponentLink2Description: Digi-Key Listing; ComponentLink2URL: https://www.digikey.com/product-detail/en/nichicon/UPJ1V151MPD6TD/493-11683-1-ND/4319490; Tolerance: 20%; Voltage: 35V; Price: 0.47; Device Package: Radial, Can, 10mm
footprint CAP AL TH D10 L5 H14.5
pins: 1, 2

## UPJ1V181MPD6TD
designator C?, comment 180uF  (value not drawn)
CAP ALUM 180UF 20% 35V RADIAL; Part Number: UPJ1V181MPD6TD; Manufacturer: Nichicon; TemperatureRange: -55C ~ 105C; Type: Polar; Ripple Current: 500mA @ 120Hz; Impedance: 180 mOhm; Value: 180uF; PartId: 24998; Supplier 1: Digi-Key; Supplier Part Number 1: 493-5112-3-ND; ComponentLink1Description: Datasheet; ComponentLink1URL: http://nichicon-us.com/english/products/pdfs/e-upj.pdf; ComponentLink2Description: Digi-Key Listing; ComponentLink2URL: https://www.digikey.com/product-detail/en/nichicon/UPJ1V181MPD6TD/493-5112-3-ND/3130117; Tolerance: 20%; Voltage: 35V; Price: 0.1467; Device Package: Radial, Can, 10mm
footprint CAP AL TH D10 L5 H17.5
pins: 1, 2

## UPJ1V182MHD
designator C?, comment 1800uF  (value not drawn)
CAP ALUM 1800UF 20% 35V RADIAL; Part Number: UPJ1V182MHD; Manufacturer: Nichicon; TemperatureRange: -55C ~ 105C; Type: Polar; Ripple Current: 2.22A @ 120Hz; Impedance: 27 mOhm; Value: 1800uF; PartId: 27009; Supplier 1: Digi-Key; Supplier Part Number 1: 493-5560-ND; ComponentLink1Description: Datasheet; ComponentLink1URL: http://nichicon-us.com/english/products/pdfs/e-upj.pdf; ComponentLink2Description: Digi-Key Listing; ComponentLink2URL: https://www.digikey.com/product-detail/en/nichicon/UPJ1V182MHD/493-5560-ND/2599315; Tolerance: 20%; Voltage: 35V; Price: 1.4; Device Package: Radial, Can, 16mm
footprint CAP AL TH D16 L7.5 H33.5
pins: 1, 2

## UPJ1V221MPD6
designator C?, comment 220uF  (value not drawn)
CAP ALUM 220UF 20% 35V RADIAL; Part Number: UPJ1V221MPD6; Manufacturer: Nichicon; TemperatureRange: -55C ~ 105C; Type: Polar; Ripple Current: 560mA @ 120Hz; Impedance: 140 mOhm; Value: 220uF; PartId: 25182; Supplier 1: Digi-Key; Supplier Part Number 1: UPJ1V221MPD6-ND; ComponentLink1Description: Datasheet; ComponentLink1URL: http://nichicon-us.com/english/products/pdfs/e-upj.pdf; ComponentLink2Description: Digi-Key Listing; ComponentLink2URL: https://www.digikey.com/product-detail/en/nichicon/UPJ1V221MPD6/UPJ1V221MPD6-ND/2428095; Tolerance: 20%; Voltage: 35V; Price: 0.47; Device Package: Radial, Can, 10mm
footprint CAP AL TH D10 L5 H17.5
pins: 1, 2

## UPJ1V222MHD
designator C?, comment 2200uF  (value not drawn)
CAP ALUM 2200UF 20% 35V RADIAL; Part Number: UPJ1V222MHD; Manufacturer: Nichicon; TemperatureRange: -55C ~ 105C; Type: Polar; Ripple Current: 2.41A @ 120Hz; Impedance: 24 mOhm; Value: 2200uF; PartId: 27342; Supplier 1: Digi-Key; Supplier Part Number 1: 493-5561-ND; ComponentLink1Description: Datasheet; ComponentLink1URL: http://nichicon-us.com/english/products/pdfs/e-upj.pdf; ComponentLink2Description: Digi-Key Listing; ComponentLink2URL: https://www.digikey.com/product-detail/en/nichicon/UPJ1V222MHD/493-5561-ND/2599319; Tolerance: 20%; Voltage: 35V; Price: 1.67; Device Package: Radial, Can, 16mm
footprint CAP AL TH D16 L7.5 H37
pins: 1, 2

## UPJ1V271MHD6TO
designator C?, comment 270uF  (value not drawn)
CAP ALUM 270UF 20% 35V RADIAL; Part Number: UPJ1V271MHD6TO; Manufacturer: Nichicon; TemperatureRange: -55C ~ 105C; Type: Polar; Ripple Current: 690mA @ 120Hz; Impedance: 130 mOhm; Value: 270uF; PartId: 22732; Supplier 1: Digi-Key; Supplier Part Number 1: 493-5116-1-ND; ComponentLink1Description: Datasheet; ComponentLink1URL: http://nichicon-us.com/english/products/pdfs/e-upj.pdf; ComponentLink2Description: Digi-Key Listing; ComponentLink2URL: https://www.digikey.com/product-detail/en/nichicon/UPJ1V271MHD6TO/493-5116-1-ND/3129453; Tolerance: 20%; Voltage: 35V; Price: 0; Device Package: Radial, Can, 12.5mm
footprint CAP AL TH D12.5 L5 H16.5
pins: 1, 2

## UPJ1V271MPD1TD
designator C?, comment 270uF  (value not drawn)
CAP ALUM 270UF 20% 35V RADIAL; Part Number: UPJ1V271MPD1TD; Manufacturer: Nichicon; TemperatureRange: -55C ~ 105C; Type: Polar; Ripple Current: 735mA @ 120Hz; Impedance: 110 mOhm; Value: 270uF; PartId: 25451; Supplier 1: Digi-Key; Supplier Part Number 1: 493-5117-3-ND; ComponentLink1Description: Datasheet; ComponentLink1URL: http://nichicon-us.com/english/products/pdfs/e-upj.pdf; ComponentLink2Description: Digi-Key Listing; ComponentLink2URL: https://www.digikey.com/product-detail/en/nichicon/UPJ1V271MPD1TD/493-5117-3-ND/3130122; Tolerance: 20%; Voltage: 35V; Price: 0.1708; Device Package: Radial, Can, 10mm
footprint CAP AL TH D10 L5 H22
pins: 1, 2

## UPJ1V331MHD6TO
designator C?, comment 330uF  (value not drawn)
CAP ALUM 330UF 20% 35V RADIAL; Part Number: UPJ1V331MHD6TO; Manufacturer: Nichicon; TemperatureRange: -55C ~ 105C; Type: Polar; Ripple Current: 780mA @ 120Hz; Impedance: 100 mOhm; Value: 330uF; PartId: 22747; Supplier 1: Digi-Key; Supplier Part Number 1: 493-5119-1-ND; ComponentLink1Description: Datasheet; ComponentLink1URL: http://nichicon-us.com/english/products/pdfs/e-upj.pdf; ComponentLink2Description: Digi-Key Listing; ComponentLink2URL: https://www.digikey.com/product-detail/en/nichicon/UPJ1V331MHD6TO/493-5119-1-ND/3129456; Tolerance: 20%; Voltage: 35V; Price: 0; Device Package: Radial, Can, 12.5mm
footprint CAP AL TH D12.5 L5 H16.5
pins: 1, 2

## UPJ1V331MPD1TD
designator C?, comment 330uF  (value not drawn)
CAP ALUM 330UF 20% 35V RADIAL; Part Number: UPJ1V331MPD1TD; Manufacturer: Nichicon; TemperatureRange: -55C ~ 105C; Type: Polar; Ripple Current: 810mA @ 120Hz; Impedance: 96 mOhm; Value: 330uF; PartId: 25453; Supplier 1: Digi-Key; Supplier Part Number 1: 493-5120-3-ND; ComponentLink1Description: Datasheet; ComponentLink1URL: http://nichicon-us.com/english/products/pdfs/e-upj.pdf; ComponentLink2Description: Digi-Key Listing; ComponentLink2URL: https://www.digikey.com/product-detail/en/nichicon/UPJ1V331MPD1TD/493-5120-3-ND/3130125; Tolerance: 20%; Voltage: 35V; Price: 0.1742; Device Package: Radial, Can, 10mm
footprint CAP AL TH D10 L5 H22
pins: 1, 2

## UPJ1V391MHD6TO
designator C?, comment 390uF  (value not drawn)
CAP ALUM 390UF 20% 35V RADIAL; Part Number: UPJ1V391MHD6TO; Manufacturer: Nichicon; TemperatureRange: -55C ~ 105C; Type: Polar; Ripple Current: 825mA @ 120Hz; Impedance: 96 mOhm; Value: 390uF; PartId: 22745; Supplier 1: Digi-Key; Supplier Part Number 1: 493-5122-1-ND; ComponentLink1Description: Datasheet; ComponentLink1URL: http://nichicon-us.com/english/products/pdfs/e-upj.pdf; ComponentLink2Description: Digi-Key Listing; ComponentLink2URL: https://www.digikey.com/product-detail/en/nichicon/UPJ1V391MHD6TO/493-5122-1-ND/3129459; Tolerance: 20%; Voltage: 35V; Price: 0; Device Package: Radial, Can, 12.5mm
footprint CAP AL TH D12.5 L5 H16.5
pins: 1, 2

## UPJ1V391MPD1TD
designator C?, comment 390uF  (value not drawn)
CAP ALUM 390UF 20% 35V RADIAL; Part Number: UPJ1V391MPD1TD; Manufacturer: Nichicon; TemperatureRange: -55C ~ 105C; Type: Polar; Ripple Current: 955mA @ 120Hz; Impedance: 84 mOhm; Value: 390uF; PartId: 26003; Supplier 1: Digi-Key; Supplier Part Number 1: 493-5123-3-ND; ComponentLink1Description: Datasheet; ComponentLink1URL: http://nichicon-us.com/english/products/pdfs/e-upj.pdf; ComponentLink2Description: Digi-Key Listing; ComponentLink2URL: https://www.digikey.com/product-detail/en/nichicon/UPJ1V391MPD1TD/493-5123-3-ND/3130128; Tolerance: 20%; Voltage: 35V; Price: 0.2282; Device Package: Radial, Can, 10mm
footprint CAP AL TH D10 L5 H30
pins: 1, 2

## UPJ1V471MHD6TN
designator C?, comment 470uF  (value not drawn)
CAP ALUM 470UF 20% 35V RADIAL; Part Number: UPJ1V471MHD6TN; Manufacturer: Nichicon; TemperatureRange: -55C ~ 105C; Type: Polar; Ripple Current: 1.01A @ 120Hz; Impedance: 84 mOhm; Value: 470uF; PartId: 26238; Supplier 1: Digi-Key; Supplier Part Number 1: 493-12125-3-ND; ComponentLink1Description: Datasheet; ComponentLink1URL: http://nichicon-us.com/english/products/pdfs/e-upj.pdf; ComponentLink2Description: Digi-Key Listing; ComponentLink2URL: https://www.digikey.com/product-detail/en/nichicon/UPJ1V471MHD6TN/493-12125-3-ND/4321268; Tolerance: 20%; Voltage: 35V; Price: 0.4441; Device Package: Radial, Can, 16mm
footprint CAP AL TH D16 L7.5 H16.5
pins: 1, 2

## UPJ1V561MHD
designator C?, comment 560uF  (value not drawn)
CAP ALUM 560UF 20% 35V RADIAL; Part Number: UPJ1V561MHD; Manufacturer: Nichicon; TemperatureRange: -55C ~ 105C; Type: Polar; Ripple Current: 1.16A @ 120Hz; Impedance: 59 mOhm; Value: 560uF; PartId: 22852; Supplier 1: Digi-Key; Supplier Part Number 1: UPJ1V561MHD-ND; ComponentLink1Description: Datasheet; ComponentLink1URL: http://nichicon-us.com/english/products/pdfs/e-upj.pdf; ComponentLink2Description: Digi-Key Listing; ComponentLink2URL: https://www.digikey.com/product-detail/en/nichicon/UPJ1V561MHD/UPJ1V561MHD-ND/2428093; Tolerance: 20%; Voltage: 35V; Price: 0; Device Package: Radial, Can, 12.5mm
footprint CAP AL TH D12.5 L5 H20
pins: 1, 2

## UPJ1V561MHD1TO
designator C?, comment 560uF  (value not drawn)
CAP ALUM 560UF 20% 35V RADIAL; Part Number: UPJ1V561MHD1TO; Manufacturer: Nichicon; TemperatureRange: -55C ~ 105C; Type: Polar; Ripple Current: 1.16A @ 120Hz; Impedance: 59 mOhm; Value: 560uF; PartId: 23271; Supplier 1: Digi-Key; Supplier Part Number 1: 493-11997-1-ND; ComponentLink1Description: Datasheet; ComponentLink1URL: http://nichicon-us.com/english/products/pdfs/e-upj.pdf; ComponentLink2Description: Digi-Key Listing; ComponentLink2URL: https://www.digikey.com/product-detail/en/nichicon/UPJ1V561MHD1TO/493-11997-1-ND/4319496; Tolerance: 20%; Voltage: 35V; Price: 0.75; Device Package: Radial, Can, 12.5mm
footprint CAP AL TH D12.5 L5 H22
pins: 1, 2

## UPJ1V681MHD1TO
designator C?, comment 680uF  (value not drawn)
CAP ALUM 680UF 20% 35V RADIAL; Part Number: UPJ1V681MHD1TO; Manufacturer: Nichicon; TemperatureRange: -55C ~ 105C; Type: Polar; Ripple Current: 1.37A @ 120Hz; Impedance: 48 mOhm; Value: 680uF; PartId: 23628; Supplier 1: Digi-Key; Supplier Part Number 1: 493-5126-3-ND; ComponentLink1Description: Datasheet; ComponentLink1URL: http://nichicon-us.com/english/products/pdfs/e-upj.pdf; ComponentLink2Description: Digi-Key Listing; ComponentLink2URL: https://www.digikey.com/product-detail/en/nichicon/UPJ1V681MHD1TO/493-5126-3-ND/3130131; Tolerance: 20%; Voltage: 35V; Price: 0.3506; Device Package: Radial, Can, 12.5mm
footprint CAP AL TH D12.5 L5 H26.5
pins: 1, 2

## UPJ1V821MHD1TO
designator C?, comment 820uF  (value not drawn)
CAP ALUM 820UF 20% 35V RADIAL; Part Number: UPJ1V821MHD1TO; Manufacturer: Nichicon; TemperatureRange: -55C ~ 105C; Type: Polar; Ripple Current: 1.49A @ 120Hz; Impedance: 42 mOhm; Value: 820uF; PartId: 24006; Supplier 1: Digi-Key; Supplier Part Number 1: 493-12139-1-ND; ComponentLink1Description: Datasheet; ComponentLink1URL: http://nichicon-us.com/english/products/pdfs/e-upj.pdf; ComponentLink2Description: Digi-Key Listing; ComponentLink2URL: https://www.digikey.com/product-detail/en/nichicon/UPJ1V821MHD1TO/493-12139-1-ND/4319499; Tolerance: 20%; Voltage: 35V; Price: 1.05; Device Package: Radial, Can, 12.5mm
footprint CAP AL TH D12.5 L5 H27
pins: 1, 2

## UPJ2A101MHD6TN
designator C?, comment 100uF  (value not drawn)
CAP ALUM 100UF 20% 100V RADIAL; Part Number: UPJ2A101MHD6TN; Manufacturer: Nichicon; TemperatureRange: -55C ~ 105C; Type: Polar; Ripple Current: 475mA @ 120Hz; Impedance: 170 mOhm; Value: 100uF; PartId: 26253; Supplier 1: Digi-Key; Supplier Part Number 1: 493-12211-3-ND; ComponentLink1Description: Datasheet; ComponentLink1URL: http://nichicon-us.com/english/products/pdfs/e-upj.pdf; ComponentLink2Description: Digi-Key Listing; ComponentLink2URL: https://www.digikey.com/product-detail/en/nichicon/UPJ2A101MHD6TN/493-12211-3-ND/4321354; Tolerance: 20%; Voltage: 100V; Price: 0.5412; Device Package: Radial, Can, 16mm
footprint CAP AL TH D16 L7.5 H16.5
pins: 1, 2

## UPJ2A121MHD
designator C?, comment 120uF  (value not drawn)
CAP ALUM 120UF 20% 100V RADIAL; Part Number: UPJ2A121MHD; Manufacturer: Nichicon; TemperatureRange: -55C ~ 105C; Type: Polar; Ripple Current: 519mA @ 120Hz; Impedance: 130 mOhm; Value: 120uF; PartId: 23545; Supplier 1: Digi-Key; Supplier Part Number 1: UPJ2A121MHD-ND; ComponentLink1Description: Datasheet; ComponentLink1URL: http://nichicon-us.com/english/products/pdfs/e-upj.pdf; ComponentLink2Description: Digi-Key Listing; ComponentLink2URL: https://www.digikey.com/product-detail/en/nichicon/UPJ2A121MHD/UPJ2A121MHD-ND/2428092; Tolerance: 20%; Voltage: 100V; Price: 0.83; Device Package: Radial, Can, 12.5mm
footprint CAP AL TH D12.5 L5 H25
pins: 1, 2

## UPJ2A121MHD1TO
designator C?, comment 120uF  (value not drawn)
CAP ALUM 120UF 20% 100V RADIAL; Part Number: UPJ2A121MHD1TO; Manufacturer: Nichicon; TemperatureRange: -55C ~ 105C; Type: Polar; Ripple Current: 519mA @ 120Hz; Impedance: 130 mOhm; Value: 120uF; PartId: 23797; Supplier 1: Digi-Key; Supplier Part Number 1: 493-12065-3-ND; ComponentLink1Description: Datasheet; ComponentLink1URL: http://nichicon-us.com/english/products/pdfs/e-upj.pdf; ComponentLink2Description: Digi-Key Listing; ComponentLink2URL: https://www.digikey.com/product-detail/en/nichicon/UPJ2A121MHD1TO/493-12065-3-ND/4321208; Tolerance: 20%; Voltage: 100V; Price: 0.3315; Device Package: Radial, Can, 12.5mm
footprint CAP AL TH D12.5 L5 H27
pins: 1, 2

## UPJ2A151MHD1TO
designator C?, comment 150uF  (value not drawn)
CAP ALUM 150UF 20% 100V RADIAL; Part Number: UPJ2A151MHD1TO; Manufacturer: Nichicon; TemperatureRange: -55C ~ 105C; Type: Polar; Ripple Current: 553mA @ 120Hz; Impedance: 110 mOhm; Value: 150uF; PartId: 23629; Supplier 1: Digi-Key; Supplier Part Number 1: 493-5129-3-ND; ComponentLink1Description: Datasheet; ComponentLink1URL: http://nichicon-us.com/english/products/pdfs/e-upj.pdf; ComponentLink2Description: Digi-Key Listing; ComponentLink2URL: https://www.digikey.com/product-detail/en/nichicon/UPJ2A151MHD1TO/493-5129-3-ND/3130134; Tolerance: 20%; Voltage: 100V; Price: 0.3549; Device Package: Radial, Can, 12.5mm
footprint CAP AL TH D12.5 L5 H26.5
pins: 1, 2

## UPJ2A181MHD
designator C?, comment 180uF  (value not drawn)
CAP ALUM 180UF 20% 100V RADIAL; Part Number: UPJ2A181MHD; Manufacturer: Nichicon; TemperatureRange: -55C ~ 105C; Type: Polar; Ripple Current: 641mA @ 120Hz; Impedance: 98 mOhm; Value: 180uF; PartId: 24210; Supplier 1: Digi-Key; Supplier Part Number 1: 493-5564-ND; ComponentLink1Description: Datasheet; ComponentLink1URL: http://nichicon-us.com/english/products/pdfs/e-upj.pdf; ComponentLink2Description: Digi-Key Listing; ComponentLink2URL: https://www.digikey.com/product-detail/en/nichicon/UPJ2A181MHD/493-5564-ND/2599353; Tolerance: 20%; Voltage: 100V; Price: 0.93; Device Package: Radial, Can, 12.5mm
footprint CAP AL TH D12.5 L5 H35.5
pins: 1, 2

## UPJ2A270MPD6TD
designator C?, comment 27uF  (value not drawn)
CAP ALUM 27UF 20% 100V RADIAL; Part Number: UPJ2A270MPD6TD; Manufacturer: Nichicon; TemperatureRange: -55C ~ 105C; Type: Polar; Ripple Current: 145mA @ 120Hz; Impedance: 500 mOhm; Value: 27uF; PartId: 24551; Supplier 1: Digi-Key; Supplier Part Number 1: 493-5132-3-ND; ComponentLink1Description: Datasheet; ComponentLink1URL: http://nichicon-us.com/english/products/pdfs/e-upj.pdf; ComponentLink2Description: Digi-Key Listing; ComponentLink2URL: https://www.digikey.com/product-detail/en/nichicon/UPJ2A270MPD6TD/493-5132-3-ND/3130137; Tolerance: 20%; Voltage: 100V; Price: 0.1496; Device Package: Radial, Can, 10mm
footprint CAP AL TH D10 L5 H14.5
pins: 1, 2

## UPJ2A330MPD6TD
designator C?, comment 33uF  (value not drawn)
CAP ALUM 33UF 20% 100V RADIAL; Part Number: UPJ2A330MPD6TD; Manufacturer: Nichicon; TemperatureRange: -55C ~ 105C; Type: Polar; Ripple Current: 166mA @ 120Hz; Impedance: 420 mOhm; Value: 33uF; PartId: 24606; Supplier 1: Digi-Key; Supplier Part Number 1: 493-11883-3-ND; ComponentLink1Description: Datasheet; ComponentLink1URL: http://nichicon-us.com/english/products/pdfs/e-upj.pdf; ComponentLink2Description: Digi-Key Listing; ComponentLink2URL: https://www.digikey.com/product-detail/en/nichicon/UPJ2A330MPD6TD/493-11883-3-ND/4321026; Tolerance: 20%; Voltage: 100V; Price: 0.183; Device Package: Radial, Can, 10mm
footprint CAP AL TH D10 L5 H14.5
pins: 1, 2

## UPJ2A331MHD
designator C?, comment 330uF  (value not drawn)
CAP ALUM 330UF 20% 100V RADIAL; Part Number: UPJ2A331MHD; Manufacturer: Nichicon; TemperatureRange: -55C ~ 105C; Type: Polar; Ripple Current: 1.16A; Impedance: 62 mOhm; Value: 330uF; PartId: 26989; Supplier 1: Digi-Key; Supplier Part Number 1: 493-11104-ND; ComponentLink1Description: Datasheet; ComponentLink1URL: http://nichicon-us.com/english/products/pdfs/e-upj.pdf; ComponentLink2Description: Digi-Key Listing; ComponentLink2URL: https://www.digikey.com/product-detail/en/nichicon/UPJ2A331MHD/493-11104-ND/2599366; Tolerance: 20%; Voltage: 100V; Price: 1.27; Device Package: Radial, Can, 16mm
footprint CAP AL TH D16 L7.5 H33.5
pins: 1, 2

## UPJ2A390MPD6TD
designator C?, comment 39uF  (value not drawn)
CAP ALUM 39UF 20% 100V RADIAL; Part Number: UPJ2A390MPD6TD; Manufacturer: Nichicon; TemperatureRange: -55C ~ 105C; Type: Polar; Ripple Current: 193mA @ 120Hz; Impedance: 360 mOhm; Value: 39uF; PartId: 25045; Supplier 1: Digi-Key; Supplier Part Number 1: 493-5135-3-ND; ComponentLink1Description: Datasheet; ComponentLink1URL: http://nichicon-us.com/english/products/pdfs/e-upj.pdf; ComponentLink2Description: Digi-Key Listing; ComponentLink2URL: https://www.digikey.com/product-detail/en/nichicon/UPJ2A390MPD6TD/493-5135-3-ND/3130140; Tolerance: 20%; Voltage: 100V; Price: 0.1936; Device Package: Radial, Can, 10mm
footprint CAP AL TH D10 L5 H17.5
pins: 1, 2

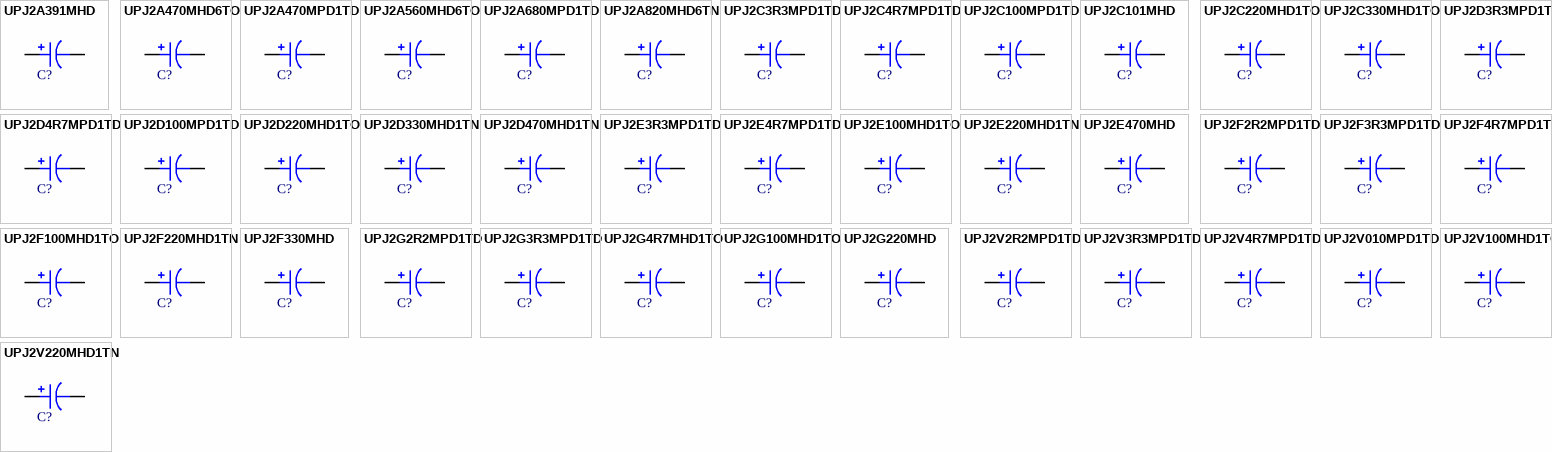
[diagram p84: symbols UPJ2A391MHD to UPJ2V220MHD1TN]